# EAGLE library part ESP8266-ROBOTDYN (library FansElectronics-Modul)
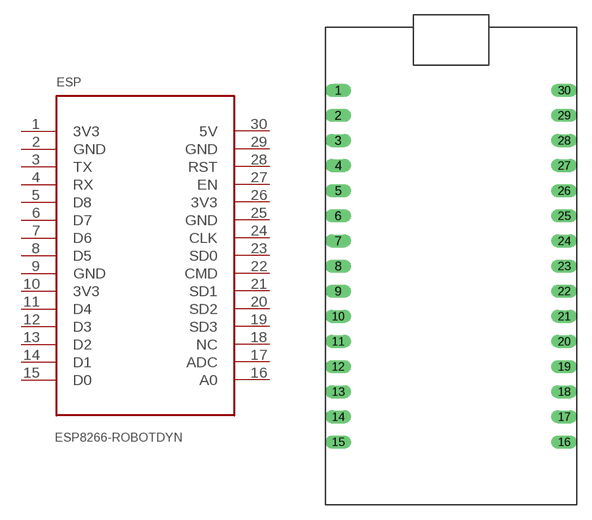
[diagram p29: symbol with the pads of ESP8266-ROBOTDYN; footprint ESP8266-ROBOTDYN]

Designator prefix ESP

## ESP8266-ROBOTDYN  [ESP8266-ROBOTDYN]
1  3V3  pwr
2  GND  pwr
3  TX
4  RX
5  D8
6  D7
7  D6
8  D5
9  GND  pwr
10  3V3  pwr
11  D4
12  D3
13  D2
14  D1
15  D0
16  A0
17  ADC
18  NC
19  SD3
20  SD2
21  SD1
22  CMD
23  SD0
24  CLK
25  GND  pwr
26  3V3  pwr
27  EN
28  RST
29  GND  pwr
30  5V  pwr

## Footprint ESP8266-ROBOTDYN (pad centres in mm)
drill 0.8 long: 1 -11.43,12.7; 2 -11.43,10.16; 3 -11.43,7.62; 4 -11.43,5.08; 5 -11.43,2.54; 6 -11.43,0; 7 -11.43,-2.54; 8 -11.43,-5.08; 9 -11.43,-7.62; 10 -11.43,-10.16; 11 -11.43,-12.7; 12 -11.43,-15.24; 13 -11.43,-17.78; 14 -11.43,-20.32; 15 -11.43,-22.86; 16 11.43,-22.86; 17 11.43,-20.32; 18 11.43,-17.78; 19 11.43,-15.24; 20 11.43,-12.7; 21 11.43,-10.16; 22 11.43,-7.62; 23 11.43,-5.08; 24 11.43,-2.54; 25 11.43,0; 26 11.43,2.54; 27 11.43,5.08; 28 11.43,7.62; 29 11.43,10.16; 30 11.43,12.7